# Altium footprint library rcl@1.PCBLIB: 487 footprints (part 18 of 31)
Each footprint in its own frame and in the unit in brackets; x right, y up, seen from the top. Pads: shape width x height; smd on the part's side, far side on the other; paste and mask are expansions set on the pad; w line width, h text height; cw(c..) or ccw(c..) is an arc to the next point about the centre after c.
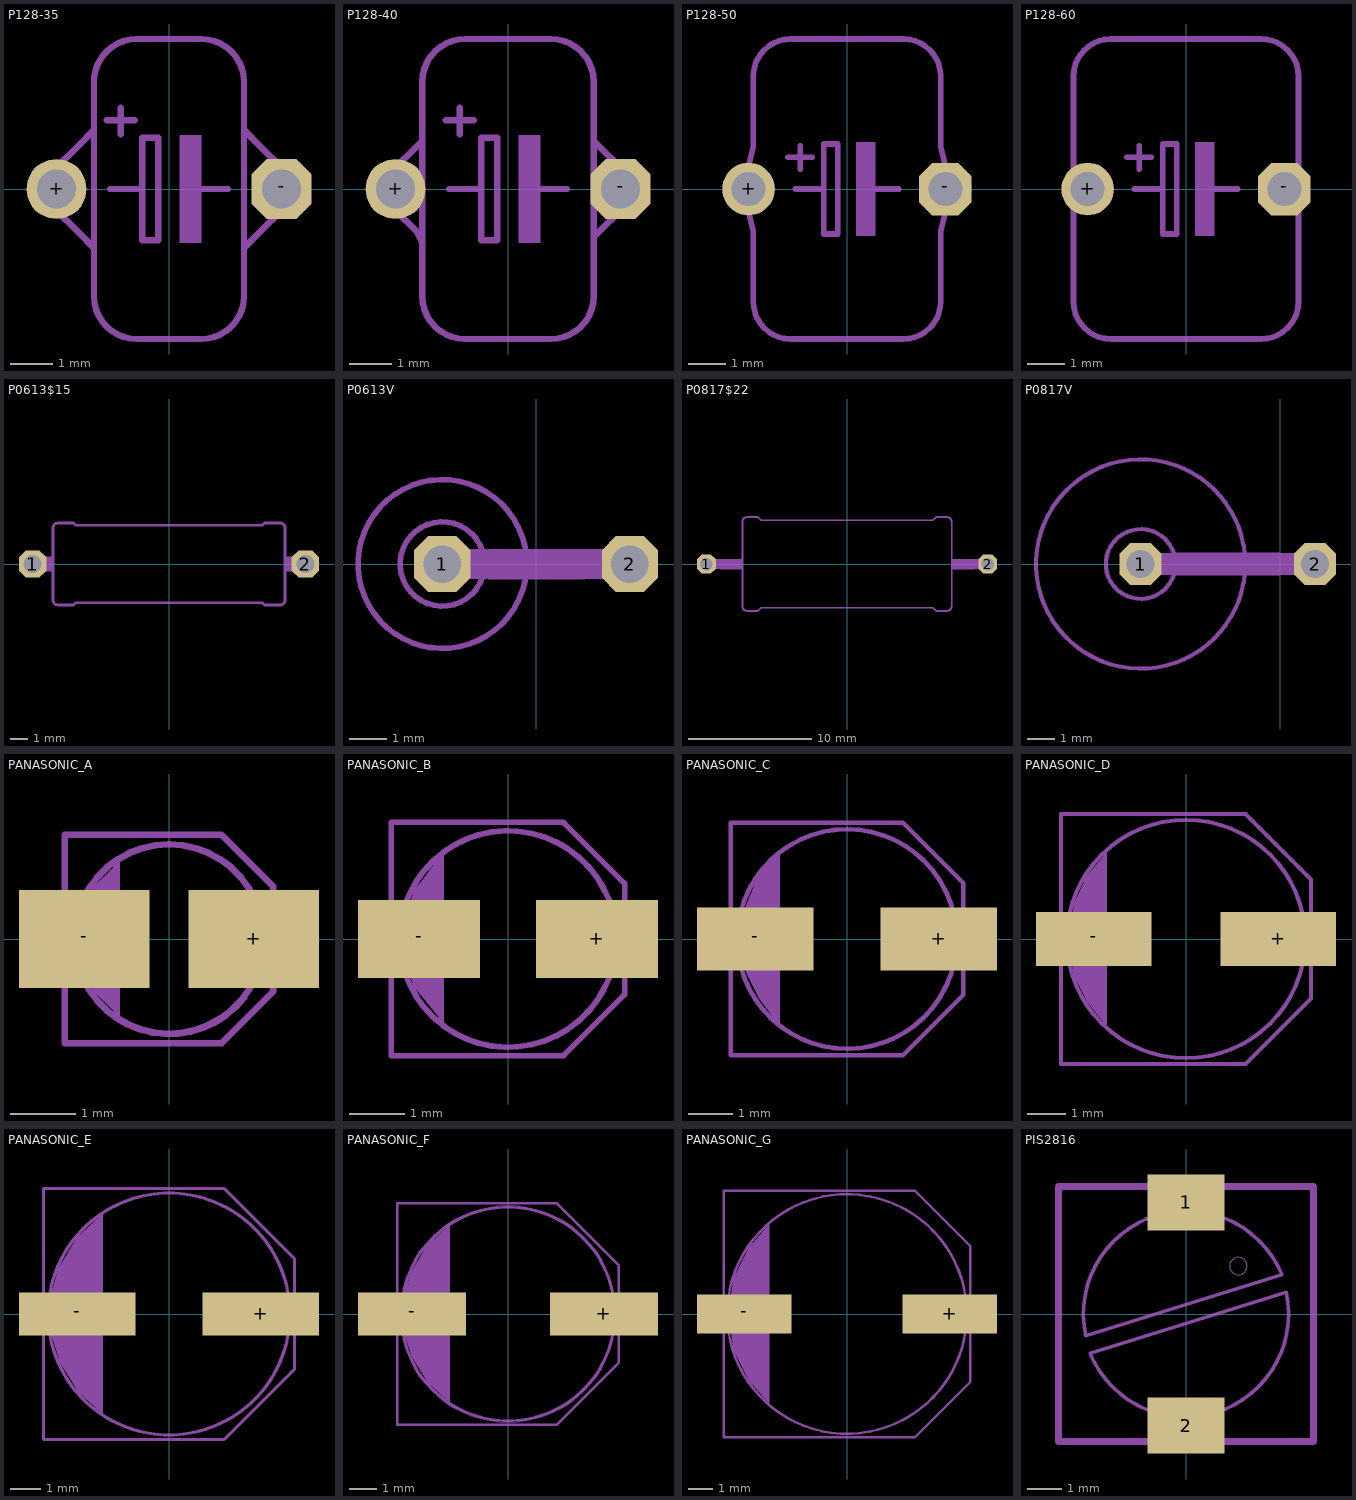
[diagram p17: the footprints below, top view; thin cyan lines are the x and y axes]

## P128-35 [mil]
pads (2):
  round 56 hole 36: +(-105,0)
  oct 56x56 / inner round 51.74 / far side oct 56x56 hole 36: -(105,0)
tDocu:
  lines w6: -85,-40 -105,-20 cw(c-105,0) -105,20 -85,40 ; -70,-25 -70,25 ; 70,-25 70,25 ; 85,-40 105,-20 ccw(c105,0) 105,20 85,40
tPlace:
  region: 10,-50 10,50 30,50 30,-50
  lines w6: -85,-40 -70,-55 ; -85,40 -70,55 ; -70,-25 -70,-55 ; -70,25 -70,55 ; -70,100 cw(c-30,100) -30,140 30,140 cw(c30,100) 70,100 70,55 ; -70,105 -70,55 ; -58,64 -32,64 ; -55,0 -25,0 ; -45,51 -45,76 ; 25,0 55,0 ; 70,-25 70,-55 ; 70,25 70,55 ; 85,-40 70,-55 ; 85,40 70,55 ; -70,-55 -70,-100 ccw(c-30,-100) -30,-140 30,-140 ccw(c30,-100) 70,-100 70,-55 ; -25,0 -25,-48 -10,-48 -10,48 -25,48 -25,0

## P128-40 [mil]
pads (2):
  round 56 hole 36: +(-105,0)
  oct 56x56 / inner round 51.74 / far side oct 56x56 hole 36: -(105,0)
tDocu:
  lines w6: -85,-40 -105,-20 cw(c-105,0) -105,20 -85,40 ; -80,-30 -80,30 ; 80,-30 80,30 ; 85,-40 105,-20 ccw(c105,0) 105,20 85,40
tPlace:
  region: 10,-50 10,50 30,50 30,-50
  lines w6: -85,-40 -80,-50 ; -85,40 -80,45 ; -80,-30 -80,-50 ; -80,30 -80,45 ; -58,64 -32,64 ; -55,0 -25,0 ; -45,51 -45,76 ; 25,0 55,0 ; 80,-30 80,-45 ; 80,30 80,45 ; 85,-40 80,-45 ; 85,40 80,45 ; -80,-50 -80,-100 ccw(c-40,-100) -40,-140 40,-140 ccw(c40,-100) 80,-100 80,-45 ; -80,45 -80,100 cw(c-40,100) -40,140 40,140 cw(c40,100) 80,100 80,45 ; -25,0 -25,-48 -10,-48 -10,48 -25,48 -25,0

## P128-50 [mil]
pads (2):
  round 56 hole 36: +(-105,0)
  oct 56x56 / inner round 51.74 / far side oct 56x56 hole 36: -(105,0)
tDocu:
  lines w6: -100,-45 -105,-25 cw(c-105,0) -105,25 -100,45 ; 100,-45 105,-25 ccw(c105,0) 105,25 100,45
tPlace:
  region: 10,-50 10,50 30,50 30,-50
  lines w6: -100,-45 -100,-120 ccw(c-60,-120) -60,-160 60,-160 ccw(c60,-120) 100,-120 100,-45 ; -100,45 -100,120 cw(c-60,120) -60,160 60,160 cw(c60,120) 100,120 100,45 ; -63,34 -37,34 ; -55,0 -25,0 ; -50,21 -50,46 ; 25,0 55,0 ; -25,0 -25,-48 -10,-48 -10,48 -25,48 -25,0

## P128-60 [mil]
pads (2):
  round 56 hole 36: +(-105,0)
  oct 56x56 / inner round 51.74 / far side oct 56x56 hole 36: -(105,0)
tDocu:
  lines w6: -120,-45 -120,45 ; 120,-45 120,45
tPlace:
  region: 10,-50 10,50 30,50 30,-50
  lines w6: -120,-45 -120,-120 ccw(c-80,-120) -80,-160 80,-160 ccw(c80,-120) 120,-120 120,-45 ; -120,45 -120,120 cw(c-80,120) -80,160 80,160 cw(c80,120) 120,120 120,45 ; -63,34 -37,34 ; -55,0 -25,0 ; -50,21 -50,46 ; 25,0 55,0 ; -25,0 -25,-48 -10,-48 -10,48 -25,48 -25,0

## P0613$15 [mil]
pads (2):
  oct 60x60 / inner round 55.43 / far side oct 60x60 hole 40: 1(-300,0) 2(300,0)
tDocu:
  region: -277,-16 -277,16 -255,16 -255,-16
  region: 255,-16 255,16 277,16 277,-16
  lines w6: -255,-25 -255,25 ; 255,-25 255,25
  lines w32: -300,0 -275,0 ; 275,0 300,0
tPlace:
  lines w6: -255,-25 -255,-80 ccw(c-245,-80) -245,-90 -210,-90 -205,-85 205,-85 210,-90 245,-90 ccw(c245,-80) 255,-80 255,-25 ; -255,25 -255,80 cw(c-245,80) -245,90 -210,90 -205,85 205,85 210,90 245,90 cw(c245,80) 255,80 255,25

## P0613V [mil]
pads (2):
  oct 60x60 / inner round 55.43 / far side oct 60x60 hole 40: 1(-100,0) 2(100,0)
tDocu:
  circle w6: c-100,0 r45
  lines w32: -100,0 -55,0 ; 55,0 100,0
tPlace:
  circle w6: c-100,0 r90
  region: -51,-16 -51,16 52,16 52,-16

## P0817$22 [mil]
pads (2):
  oct 60x60 / inner round 55.43 / far side oct 60x60 hole 40: 1(-450,0) 2(450,0)
tDocu:
  lines w32: -450,0 -410,0 ; 410,0 450,0
  text "0817" at 260,-89 h77.5
tPlace:
  region: 335,-16 335,16 406,16 406,-16
  region: -406,-16 -406,16 -335,16 -335,-16
  lines w6: -335,-135 -335,135 cw(c-320,135) -320,150 -285,150 -275,140 275,140 285,150 320,150 cw(c320,135) 335,135 335,-135 cw(c320,-135) 320,-150 285,-150 275,-140 -275,-140 -285,-150 -320,-150 cw(c-320,-135) -335,-135

## P0817V [mil]
pads (2):
  oct 60x60 / inner round 55.43 / far side oct 60x60 hole 40: 1(-200,0) 2(50,0)
tDocu:
  circle w6: c-200,0 r50
  lines w32: -200,0 -150,0 ; 0,0 50,0
tPlace:
  circle w6: c-200,0 r150
  region: -150,-16 -150,16 0,16 0,-16
  text "0817" at -270,80 h62

## PANASONIC_A [mm]
pads (2):
  rect 2x1.5 smd: +(1.3,0) -(-1.3,0)
tDocu:
  circle w0.102: c0,0 r1.45
  region: -1.8,-0.3 -1.8,0.3 -1.45,0.3 -1.45,-0.3
  region: 1.45,-0.3 1.45,0.3 1.8,0.3 1.8,-0.3
  region: -0.85,1.1 -1.15,0.8 -1.35,0.3 -1.35,-0.3 -1.15,-0.8 -0.85,-1.1 -0.85,1.05
  lines w0.102: -0.8,-1.2 -0.8,1.2 ; -1.6,-1.6 0.8,-1.6 1.6,-0.8 1.6,0.8 0.8,1.6 -1.6,1.6 -1.6,-1.6
tPlace:
  lines w0.102: -1.6,-0.95 -1.6,-1.6 0.8,-1.6 1.5,-0.9 ; -1.6,0.95 -1.6,1.6 0.8,1.6 1.5,0.9 ; -1.1,-0.95 ccw(c0.004,0) 1.15,-0.9 ; -1.1,0.95 cw(c0,0) 1.1,0.95

## PANASONIC_B [mil]
pads (2):
  rect 86.61x55.12 smd: +(62.99,0) -(-62.99,0)
tDocu:
  circle w4: c0,0 r76.77
  region: -90.55,-13.78 -90.55,13.78 -72.83,13.78 -72.83,-13.78
  region: 74.8,-13.78 74.8,13.78 90.55,13.78 90.55,-13.78
  region: -49.21,57.09 -66.93,33.46 -72.83,13.78 -72.83,-15.75 -66.93,-33.46 -49.21,-55.12 -49.21,55.12
  lines w4: -47.24,-59.06 -47.24,59.06 ; -82.68,-82.68 39.37,-82.68 82.68,-39.37 82.68,39.37 39.37,82.68 -82.68,82.68 -82.68,-82.68
tPlace:
  lines w4: -82.68,-33.46 -82.68,-82.68 39.37,-82.68 82.68,-39.37 ; -82.68,33.46 -82.68,82.68 39.37,82.68 82.68,39.37 ; -68.9,-33.46 ccw(c0,0.01) 68.9,-33.46 ; -68.9,33.46 cw(c0,-0.01) 68.9,33.46

## PANASONIC_C [mil]
pads (2):
  rect 102.36x55.12 smd: +(80.71,0) -(-80.71,0)
tDocu:
  circle w4: c0,0 r96.46
  region: -116.14,-13.78 -116.14,13.78 -94.49,13.78 -94.49,-13.78
  region: 94.49,-13.78 94.49,13.78 116.14,13.78 116.14,-13.78
  region: -62.99,70.87 -78.74,53.15 -88.58,29.53 -96.46,1.97 -88.58,-29.53 -76.77,-53.15 -62.99,-70.87
  lines w4: -61.02,-72.83 -61.02,72.83 ; -102.36,-102.36 49.21,-102.36 102.36,-49.21 102.36,49.21 49.21,102.36 -102.36,102.36 -102.36,-102.36
tPlace:
  lines w4: -102.36,-37.4 -102.36,-102.36 49.21,-102.36 102.36,-49.21 102.36,-37.4 ; -102.36,37.4 -102.36,102.36 49.21,102.36 102.36,49.21 102.36,37.4 ; -90.55,-33.46 ccw(c0,0) 90.55,-33.46 ; -90.55,33.46 cw(c0,0) 90.55,33.46

## PANASONIC_D [mm]
pads (2):
  rect 3x1.4 smd: +(2.4,0) -(-2.4,0)
tDocu:
  circle w0.102: c0,0 r3.1
  region: -3.65,-0.35 -3.65,0.35 -3.05,0.35 -3.05,-0.35
  region: 3.05,-0.35 3.05,0.35 3.65,0.35 3.65,-0.35
  region: -2.15,2.15 -2.6,1.6 -2.9,0.9 -3.05,0 -2.9,-0.95 -2.55,-1.65 -2.15,-2.15 -2.15,2.1
  lines w0.102: -2.1,-2.2 -2.1,2.25 ; -3.25,-3.25 1.55,-3.25 3.25,-1.55 3.25,1.55 1.55,3.25 -3.25,3.25 -3.25,-3.25
tPlace:
  lines w0.102: -3.25,-0.95 -3.25,-3.25 1.55,-3.25 3.25,-1.55 3.25,-0.95 ; -3.25,0.95 -3.25,3.25 1.55,3.25 3.25,1.55 3.25,0.95 ; -2.95,-0.95 ccw(c0,0) 2.95,-0.95 ; -2.95,0.95 cw(c0,0) 2.95,0.95

## PANASONIC_E [mm]
pads (2):
  rect 3.8x1.4 smd: +(3,0) -(-3,0)
tDocu:
  circle w0.102: c0,0 r3.95
  region: -4.5,-0.35 -4.5,0.35 -3.8,0.35 -3.8,-0.35
  region: 3.8,-0.35 3.8,0.35 4.5,0.35 4.5,-0.35
  region: -2.25,3.2 -3,2.5 -3.6,1.5 -3.85,0.65 -3.85,-0.65 -3.55,-1.6 -2.95,-2.55 -2.25,-3.2 -2.25,3.15
  lines w0.102: -2.2,-3.25 -2.2,3.25 ; -4.1,-4.1 1.8,-4.1 4.1,-1.8 4.1,1.8 1.8,4.1 -4.1,4.1 -4.1,-4.1
tPlace:
  lines w0.102: -4.1,-0.9 -4.1,-4.1 1.8,-4.1 4.1,-1.8 4.1,-0.9 ; -4.1,0.9 -4.1,4.1 1.8,4.1 4.1,1.8 4.1,0.9 ; -3.85,-0.9 ccw(c0,0) 3.85,-0.9 ; -3.85,0.9 cw(c0,0) 3.85,0.9

## PANASONIC_F [mm]
pads (2):
  rect 4x1.6 smd: +(3.55,0) -(-3.55,0)
tDocu:
  circle w0.001: c0,0 r4
  circle w0.102: c0,0 r3.95
  region: -4.85,-0.45 -4.85,0.45 -3.9,0.45 -3.9,-0.45
  region: 3.9,-0.45 3.9,0.45 4.85,0.45 4.85,-0.45
  region: -2.25,3.2 -3,2.5 -3.6,1.5 -3.85,0.65 -3.85,-0.65 -3.55,-1.6 -2.95,-2.55 -2.25,-3.2 -2.25,3.15
  lines w0.102: -2.2,-3.25 -2.2,3.25 ; -4.1,-4.1 1.8,-4.1 4.1,-1.8 4.1,1.8 1.8,4.1 -4.1,4.1 -4.1,-4.1
tPlace:
  lines w0.102: -4.1,-1 -4.1,-4.1 1.8,-4.1 4.1,-1.8 4.1,-1 ; -4.1,1 -4.1,4.1 1.8,4.1 4.1,1.8 4.1,1 ; -3.85,-0.9 ccw(c0,0) 3.85,-0.9 ; -3.85,0.9 cw(c0,0) 3.85,0.9

## PANASONIC_G [mil]
pads (2):
  rect 153.54x62.99 smd: +(167.32,0) -(-167.32,0)
tDocu:
  circle w4: c0,0 r194.88
  region: -230.32,-17.72 -230.32,17.72 -192.91,17.72 -192.91,-17.72
  region: 192.91,-17.72 192.91,17.72 230.32,17.72 230.32,-17.72
  region: -129.92,141.73 -159.45,108.27 -183.07,61.02 -190.94,17.72 -190.94,-17.72 -183.07,-61.02 -159.45,-108.27 -129.92,-141.73 -129.92,139.76
  lines w4: -127.95,-143.7 -127.95,145.67 ; -200.79,-200.79 110.24,-200.79 200.79,-110.24 200.79,110.24 110.24,200.79 -200.79,200.79 -200.79,-200.79
tPlace:
  lines w4: -200.79,-39.37 -200.79,-200.79 110.24,-200.79 200.79,-110.24 200.79,-39.37 ; -200.79,39.37 -200.79,200.79 110.24,200.79 200.79,110.24 200.79,39.37 ; -190.94,-39.37 ccw(c0,0) 190.94,-39.37 ; -190.94,39.37 cw(c0,0) 190.94,39.37

## PIS2816 [mil]
pads (2):
  rect 86.61x62.99 smd: 1(0,125.98) 2(0,-125.98)
tDocu:
  lines w4: -113.19,-24.61 cw(c0.6,0) 108.27,44.29 ; -108.27,-44.29 ccw(c-0.6,0) 113.19,24.61
  lines w8: -143.7,-143.7 143.7,-143.7 ; -143.7,143.7 143.7,143.7
tPlace:
  circle w0: c59.06,54.13 r9.84
  lines w4: -54.13,102.36 ccw(c0,-0.04) -113.19,-24.61 108.27,44.29 ccw(c-0.01,-0.59) 50.2,105.32 ; -50.2,-105.32 cw(c0.01,0.59) -108.27,-44.29 113.19,24.61 cw(c0,0.04) 54.13,-102.36
  lines w8: -53.15,-143.7 -143.7,-143.7 -143.7,143.7 -53.15,143.7 ; 53.15,-143.7 143.7,-143.7 143.7,143.7 53.15,143.7